# Altium footprint library FCI 06-381-7PIN.PCBLIB: 1 footprints
Each footprint in its own frame and in the unit in brackets; x right, y up, seen from the top. Pads: shape width x height; smd on the part's side, far side on the other; paste and mask are expansions set on the pad; w line width, h text height; cw(c..) or ccw(c..) is an arc to the next point about the centre after c.
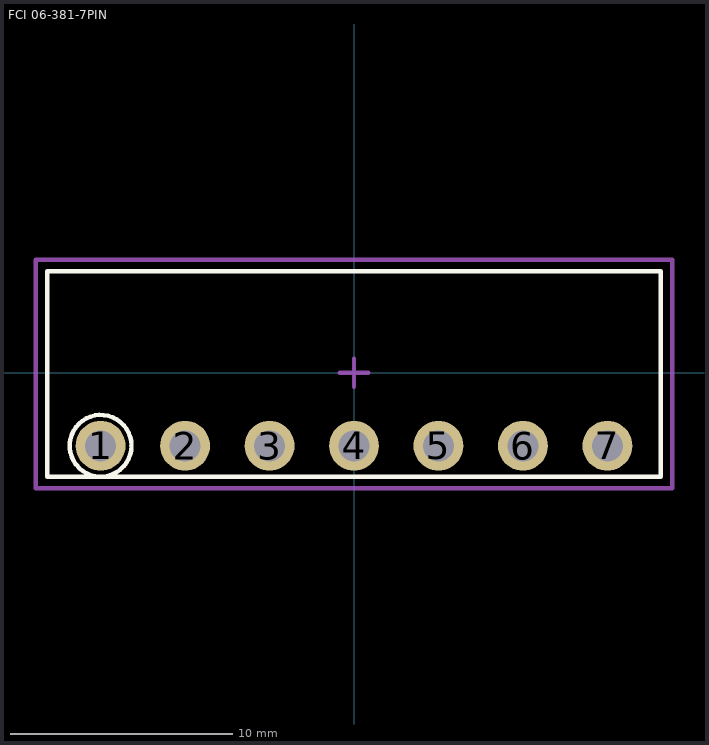
[diagram p0: the footprint, top view; thin cyan lines are the x and y axes]

## FCI 06-381-7PIN [mm] "FCI Pluggable Terminal Block"
height 7
pads (7):
  round 2.25 hole 1.4: 1(-11.43,-3.302) 2(-7.62,-3.302) 3(-3.81,-3.302) 4(0,-3.302) 5(3.81,-3.302) 6(7.62,-3.302) 7(11.43,-3.302)
Top Overlay:
  circle w0.2: c-11.43,-3.302 r1.393
  lines w0.2: -13.843,-4.699 -13.843,4.572 13.843,4.572 13.843,-4.699 -13.843,-4.699
Mechanical 15:
  lines w0.2: -0.635,0 0.635,0 ; 0,-0.635 0,0.635 ; -14.351,-5.207 -14.351,5.08 14.351,5.08 14.351,-5.207 -14.351,-5.207
3D body "FCI 06-381 7Pos.STEP": height 7.6, standoff -3.52, extent -13.93,-4.699 13.93,4.501